# Altium schematic symbol library Panasonic_ERJ_2512.SchLib: 565 symbols (part 10 of 11)
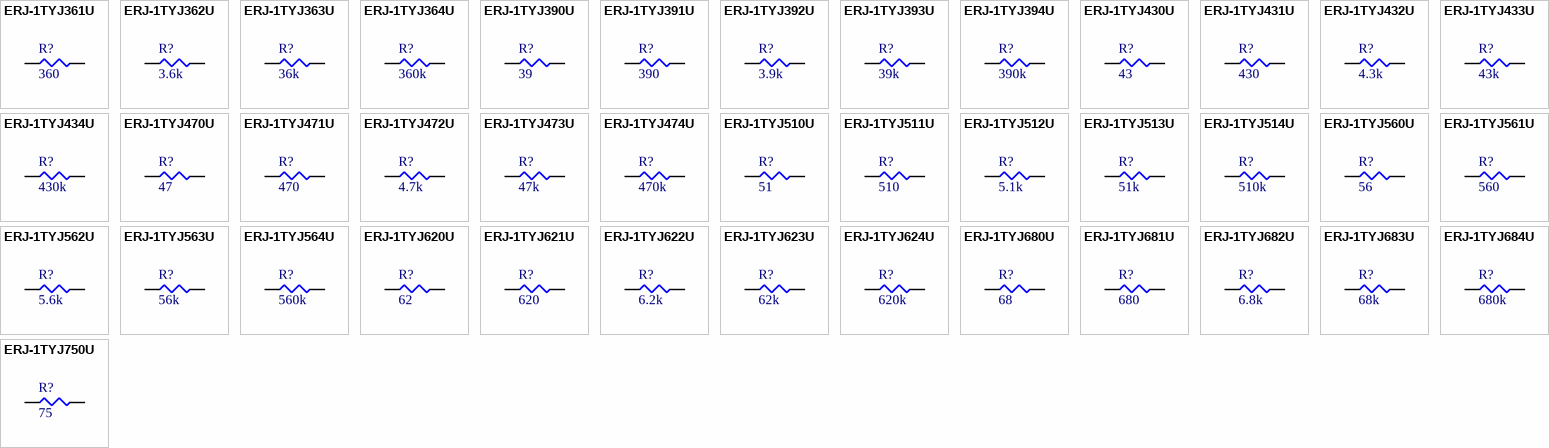
[diagram p23: symbols ERJ-1TYJ361U to ERJ-1TYJ750U]

## ERJ-1TYJ561U
designator R?, comment 560
RES SMD 560 OHM 5% 1W 2512; Part Number: ERJ-1TYJ561U; Manufacturer: Panasonic Electronic Components; Factory Stock: 0; Unit Price (USD): 0.07603; @ qty: 1500; Minimum Quantity: 1; Temperature Coefficient: ±200ppm/°C; Datasheets: //media.digikey.com/pdf/Data%20Sheets/Panasonic%20Resistors%20Thermistors%20PDFs/ERJ-xG,14,12(Z),1T_Rev_Apr_2015.pdf; Image: //media.digikey.com/Renders/Panasonic%20Renders/ERJ-2512%20Pkg.jpg; Digi-Key Part Number: PT560XCT-ND; Quantity Available: 16878; Packaging: Cut Tape (CT); Series: ERJ; Part Status: Active; Value: 560; Tolerance: ±5%; Power (Watts): 1W; Composition: Thick Film; Features: Automotive AEC-Q200; Operating Temperature: -55°C ~ 155°C; Package / Case: 2512 (6432 Metric); Supplier Device Package: 2512; Size / Dimension: 0.252" L x 0.126" W (6.40mm x 3.20mm); Height - Seated (Max): 0.028" (0.70mm); Number of Terminations: 2; Failure Rate: -
footprint SMD-2512-RES
pins: 1, 2

## ERJ-1TYJ562U
designator R?, comment 5.6k
RES SMD 5.6K OHM 5% 1W 2512; Part Number: ERJ-1TYJ562U; Manufacturer: Panasonic Electronic Components; Factory Stock: 0; Unit Price (USD): 0.10102; @ qty: 1500; Minimum Quantity: 1; Temperature Coefficient: ±200ppm/°C; Datasheets: //media.digikey.com/pdf/Data%20Sheets/Panasonic%20Resistors%20Thermistors%20PDFs/ERJ-xG,14,12(Z),1T_Rev_Apr_2015.pdf; Image: //media.digikey.com/Renders/Panasonic%20Renders/ERJ-2512%20Pkg.jpg; Digi-Key Part Number: PT5.6KXCT-ND; Quantity Available: 24278; Packaging: Cut Tape (CT); Series: ERJ; Part Status: Active; Value: 5.6k; Tolerance: ±5%; Power (Watts): 1W; Composition: Thick Film; Features: Automotive AEC-Q200; Operating Temperature: -55°C ~ 155°C; Package / Case: 2512 (6432 Metric); Supplier Device Package: 2512; Size / Dimension: 0.252" L x 0.126" W (6.40mm x 3.20mm); Height - Seated (Max): 0.028" (0.70mm); Number of Terminations: 2; Failure Rate: -
footprint SMD-2512-RES
pins: 1, 2

## ERJ-1TYJ563U
designator R?, comment 56k
RES SMD 56K OHM 5% 1W 2512; Part Number: ERJ-1TYJ563U; Manufacturer: Panasonic Electronic Components; Factory Stock: 0; Unit Price (USD): 0.07603; @ qty: 1500; Minimum Quantity: 1; Temperature Coefficient: ±200ppm/°C; Datasheets: //media.digikey.com/pdf/Data%20Sheets/Panasonic%20Resistors%20Thermistors%20PDFs/ERJ-xG,14,12(Z),1T_Rev_Apr_2015.pdf; Image: //media.digikey.com/Renders/Panasonic%20Renders/ERJ-2512%20Pkg.jpg; Digi-Key Part Number: PT56KXCT-ND; Quantity Available: 4392; Packaging: Cut Tape (CT); Series: ERJ; Part Status: Active; Value: 56k; Tolerance: ±5%; Power (Watts): 1W; Composition: Thick Film; Features: Automotive AEC-Q200; Operating Temperature: -55°C ~ 155°C; Package / Case: 2512 (6432 Metric); Supplier Device Package: 2512; Size / Dimension: 0.252" L x 0.126" W (6.40mm x 3.20mm); Height - Seated (Max): 0.028" (0.70mm); Number of Terminations: 2; Failure Rate: -
footprint SMD-2512-RES
pins: 1, 2

## ERJ-1TYJ564U
designator R?, comment 560k
RES SMD 560K OHM 5% 1W 2512; Part Number: ERJ-1TYJ564U; Manufacturer: Panasonic Electronic Components; Factory Stock: 0; Unit Price (USD): 0.07603; @ qty: 1500; Minimum Quantity: 1; Temperature Coefficient: ±200ppm/°C; Datasheets: //media.digikey.com/pdf/Data%20Sheets/Panasonic%20Resistors%20Thermistors%20PDFs/ERJ-xG,14,12(Z),1T_Rev_Apr_2015.pdf; Image: //media.digikey.com/Renders/Panasonic%20Renders/ERJ-2512%20Pkg.jpg; Digi-Key Part Number: PT560KXCT-ND; Quantity Available: 3495; Packaging: Cut Tape (CT); Series: ERJ; Part Status: Active; Value: 560k; Tolerance: ±5%; Power (Watts): 1W; Composition: Thick Film; Features: Automotive AEC-Q200; Operating Temperature: -55°C ~ 155°C; Package / Case: 2512 (6432 Metric); Supplier Device Package: 2512; Size / Dimension: 0.252" L x 0.126" W (6.40mm x 3.20mm); Height - Seated (Max): 0.028" (0.70mm); Number of Terminations: 2; Failure Rate: -
footprint SMD-2512-RES
pins: 1, 2

## ERJ-1TYJ620U
designator R?, comment 62
RES SMD 62 OHM 5% 1W 2512; Part Number: ERJ-1TYJ620U; Manufacturer: Panasonic Electronic Components; Factory Stock: 0; Unit Price (USD): 0.10102; @ qty: 1500; Minimum Quantity: 1; Temperature Coefficient: ±200ppm/°C; Datasheets: //media.digikey.com/pdf/Data%20Sheets/Panasonic%20Resistors%20Thermistors%20PDFs/ERJ-xG,14,12(Z),1T_Rev_Apr_2015.pdf; Image: //media.digikey.com/Renders/Panasonic%20Renders/ERJ-2512%20Pkg.jpg; Digi-Key Part Number: PT62XCT-ND; Quantity Available: 12503; Packaging: Cut Tape (CT); Series: ERJ; Part Status: Active; Value: 62; Tolerance: ±5%; Power (Watts): 1W; Composition: Thick Film; Features: Automotive AEC-Q200; Operating Temperature: -55°C ~ 155°C; Package / Case: 2512 (6432 Metric); Supplier Device Package: 2512; Size / Dimension: 0.252" L x 0.126" W (6.40mm x 3.20mm); Height - Seated (Max): 0.028" (0.70mm); Number of Terminations: 2; Failure Rate: -
footprint SMD-2512-RES
pins: 1, 2

## ERJ-1TYJ621U
designator R?, comment 620
RES SMD 620 OHM 5% 1W 2512; Part Number: ERJ-1TYJ621U; Manufacturer: Panasonic Electronic Components; Factory Stock: 0; Unit Price (USD): 0.07603; @ qty: 1500; Minimum Quantity: 1; Temperature Coefficient: ±200ppm/°C; Datasheets: //media.digikey.com/pdf/Data%20Sheets/Panasonic%20Resistors%20Thermistors%20PDFs/ERJ-xG,14,12(Z),1T_Rev_Apr_2015.pdf; Image: //media.digikey.com/Renders/Panasonic%20Renders/ERJ-2512%20Pkg.jpg; Digi-Key Part Number: PT620XCT-ND; Quantity Available: 2613; Packaging: Cut Tape (CT); Series: ERJ; Part Status: Active; Value: 620; Tolerance: ±5%; Power (Watts): 1W; Composition: Thick Film; Features: Automotive AEC-Q200; Operating Temperature: -55°C ~ 155°C; Package / Case: 2512 (6432 Metric); Supplier Device Package: 2512; Size / Dimension: 0.252" L x 0.126" W (6.40mm x 3.20mm); Height - Seated (Max): 0.028" (0.70mm); Number of Terminations: 2; Failure Rate: -
footprint SMD-2512-RES
pins: 1, 2

## ERJ-1TYJ622U
designator R?, comment 6.2k
RES SMD 6.2K OHM 5% 1W 2512; Part Number: ERJ-1TYJ622U; Manufacturer: Panasonic Electronic Components; Factory Stock: 0; Unit Price (USD): 0.10102; @ qty: 1500; Minimum Quantity: 1; Temperature Coefficient: ±200ppm/°C; Datasheets: //media.digikey.com/pdf/Data%20Sheets/Panasonic%20Resistors%20Thermistors%20PDFs/ERJ-xG,14,12(Z),1T_Rev_Apr_2015.pdf; Image: //media.digikey.com/Renders/Panasonic%20Renders/ERJ-2512%20Pkg.jpg; Digi-Key Part Number: PT6.2KXCT-ND; Quantity Available: 3339; Packaging: Cut Tape (CT); Series: ERJ; Part Status: Active; Value: 6.2k; Tolerance: ±5%; Power (Watts): 1W; Composition: Thick Film; Features: Automotive AEC-Q200; Operating Temperature: -55°C ~ 155°C; Package / Case: 2512 (6432 Metric); Supplier Device Package: 2512; Size / Dimension: 0.252" L x 0.126" W (6.40mm x 3.20mm); Height - Seated (Max): 0.028" (0.70mm); Number of Terminations: 2; Failure Rate: -
footprint SMD-2512-RES
pins: 1, 2

## ERJ-1TYJ623U
designator R?, comment 62k
RES SMD 62K OHM 5% 1W 2512; Part Number: ERJ-1TYJ623U; Manufacturer: Panasonic Electronic Components; Factory Stock: 0; Unit Price (USD): 0.10102; @ qty: 1500; Minimum Quantity: 1; Temperature Coefficient: ±200ppm/°C; Datasheets: //media.digikey.com/pdf/Data%20Sheets/Panasonic%20Resistors%20Thermistors%20PDFs/ERJ-xG,14,12(Z),1T_Rev_Apr_2015.pdf; Image: //media.digikey.com/Renders/Panasonic%20Renders/ERJ-2512%20Pkg.jpg; Digi-Key Part Number: PT62KXCT-ND; Quantity Available: 9225; Packaging: Cut Tape (CT); Series: ERJ; Part Status: Active; Value: 62k; Tolerance: ±5%; Power (Watts): 1W; Composition: Thick Film; Features: Automotive AEC-Q200; Operating Temperature: -55°C ~ 155°C; Package / Case: 2512 (6432 Metric); Supplier Device Package: 2512; Size / Dimension: 0.252" L x 0.126" W (6.40mm x 3.20mm); Height - Seated (Max): 0.028" (0.70mm); Number of Terminations: 2; Failure Rate: -
footprint SMD-2512-RES
pins: 1, 2

## ERJ-1TYJ624U
designator R?, comment 620k
RES SMD 620K OHM 5% 1W 2512; Part Number: ERJ-1TYJ624U; Manufacturer: Panasonic Electronic Components; Factory Stock: 0; Unit Price (USD): 0.10102; @ qty: 1500; Minimum Quantity: 1; Temperature Coefficient: ±200ppm/°C; Datasheets: //media.digikey.com/pdf/Data%20Sheets/Panasonic%20Resistors%20Thermistors%20PDFs/ERJ-xG,14,12(Z),1T_Rev_Apr_2015.pdf; Image: //media.digikey.com/Renders/Panasonic%20Renders/ERJ-2512%20Pkg.jpg; Digi-Key Part Number: PT620KXCT-ND; Quantity Available: 9294; Packaging: Cut Tape (CT); Series: ERJ; Part Status: Active; Value: 620k; Tolerance: ±5%; Power (Watts): 1W; Composition: Thick Film; Features: Automotive AEC-Q200; Operating Temperature: -55°C ~ 155°C; Package / Case: 2512 (6432 Metric); Supplier Device Package: 2512; Size / Dimension: 0.252" L x 0.126" W (6.40mm x 3.20mm); Height - Seated (Max): 0.028" (0.70mm); Number of Terminations: 2; Failure Rate: -
footprint SMD-2512-RES
pins: 1, 2

## ERJ-1TYJ680U
designator R?, comment 68
RES SMD 68 OHM 5% 1W 2512; Part Number: ERJ-1TYJ680U; Manufacturer: Panasonic Electronic Components; Factory Stock: 0; Unit Price (USD): 0.10102; @ qty: 1500; Minimum Quantity: 1; Temperature Coefficient: ±200ppm/°C; Datasheets: //media.digikey.com/pdf/Data%20Sheets/Panasonic%20Resistors%20Thermistors%20PDFs/ERJ-xG,14,12(Z),1T_Rev_Apr_2015.pdf; Image: //media.digikey.com/Renders/Panasonic%20Renders/ERJ-2512%20Pkg.jpg; Digi-Key Part Number: PT68XCT-ND; Quantity Available: 16899; Packaging: Cut Tape (CT); Series: ERJ; Part Status: Active; Value: 68; Tolerance: ±5%; Power (Watts): 1W; Composition: Thick Film; Features: Automotive AEC-Q200; Operating Temperature: -55°C ~ 155°C; Package / Case: 2512 (6432 Metric); Supplier Device Package: 2512; Size / Dimension: 0.252" L x 0.126" W (6.40mm x 3.20mm); Height - Seated (Max): 0.028" (0.70mm); Number of Terminations: 2; Failure Rate: -
footprint SMD-2512-RES
pins: 1, 2

## ERJ-1TYJ681U
designator R?, comment 680
RES SMD 680 OHM 5% 1W 2512; Part Number: ERJ-1TYJ681U; Manufacturer: Panasonic Electronic Components; Factory Stock: 0; Unit Price (USD): 0.07603; @ qty: 1500; Minimum Quantity: 1; Temperature Coefficient: ±200ppm/°C; Datasheets: //media.digikey.com/pdf/Data%20Sheets/Panasonic%20Resistors%20Thermistors%20PDFs/ERJ-xG,14,12(Z),1T_Rev_Apr_2015.pdf; Image: //media.digikey.com/Renders/Panasonic%20Renders/ERJ-2512%20Pkg.jpg; Digi-Key Part Number: PT680XCT-ND; Quantity Available: 6193; Packaging: Cut Tape (CT); Series: ERJ; Part Status: Active; Value: 680; Tolerance: ±5%; Power (Watts): 1W; Composition: Thick Film; Features: Automotive AEC-Q200; Operating Temperature: -55°C ~ 155°C; Package / Case: 2512 (6432 Metric); Supplier Device Package: 2512; Size / Dimension: 0.252" L x 0.126" W (6.40mm x 3.20mm); Height - Seated (Max): 0.028" (0.70mm); Number of Terminations: 2; Failure Rate: -
footprint SMD-2512-RES
pins: 1, 2

## ERJ-1TYJ682U
designator R?, comment 6.8k
RES SMD 6.8K OHM 5% 1W 2512; Part Number: ERJ-1TYJ682U; Manufacturer: Panasonic Electronic Components; Factory Stock: 0; Unit Price (USD): 0.07603; @ qty: 1500; Minimum Quantity: 1; Temperature Coefficient: ±200ppm/°C; Datasheets: //media.digikey.com/pdf/Data%20Sheets/Panasonic%20Resistors%20Thermistors%20PDFs/ERJ-xG,14,12(Z),1T_Rev_Apr_2015.pdf; Image: //media.digikey.com/Renders/Panasonic%20Renders/ERJ-2512%20Pkg.jpg; Digi-Key Part Number: PT6.8KXCT-ND; Quantity Available: 576; Packaging: Cut Tape (CT); Series: ERJ; Part Status: Active; Value: 6.8k; Tolerance: ±5%; Power (Watts): 1W; Composition: Thick Film; Features: Automotive AEC-Q200; Operating Temperature: -55°C ~ 155°C; Package / Case: 2512 (6432 Metric); Supplier Device Package: 2512; Size / Dimension: 0.252" L x 0.126" W (6.40mm x 3.20mm); Height - Seated (Max): 0.028" (0.70mm); Number of Terminations: 2; Failure Rate: -
footprint SMD-2512-RES
pins: 1, 2

## ERJ-1TYJ683U
designator R?, comment 68k
RES SMD 68K OHM 5% 1W 2512; Part Number: ERJ-1TYJ683U; Manufacturer: Panasonic Electronic Components; Factory Stock: 0; Unit Price (USD): 0.07603; @ qty: 1500; Minimum Quantity: 1; Temperature Coefficient: ±200ppm/°C; Datasheets: //media.digikey.com/pdf/Data%20Sheets/Panasonic%20Resistors%20Thermistors%20PDFs/ERJ-xG,14,12(Z),1T_Rev_Apr_2015.pdf; Image: //media.digikey.com/Renders/Panasonic%20Renders/ERJ-2512%20Pkg.jpg; Digi-Key Part Number: PT68KXCT-ND; Quantity Available: 10840; Packaging: Cut Tape (CT); Series: ERJ; Part Status: Active; Value: 68k; Tolerance: ±5%; Power (Watts): 1W; Composition: Thick Film; Features: Automotive AEC-Q200; Operating Temperature: -55°C ~ 155°C; Package / Case: 2512 (6432 Metric); Supplier Device Package: 2512; Size / Dimension: 0.252" L x 0.126" W (6.40mm x 3.20mm); Height - Seated (Max): 0.028" (0.70mm); Number of Terminations: 2; Failure Rate: -
footprint SMD-2512-RES
pins: 1, 2

## ERJ-1TYJ684U
designator R?, comment 680k
RES SMD 680K OHM 5% 1W 2512; Part Number: ERJ-1TYJ684U; Manufacturer: Panasonic Electronic Components; Factory Stock: 0; Unit Price (USD): 0.10102; @ qty: 1500; Minimum Quantity: 1; Temperature Coefficient: ±200ppm/°C; Datasheets: //media.digikey.com/pdf/Data%20Sheets/Panasonic%20Resistors%20Thermistors%20PDFs/ERJ-xG,14,12(Z),1T_Rev_Apr_2015.pdf; Image: //media.digikey.com/Renders/Panasonic%20Renders/ERJ-2512%20Pkg.jpg; Digi-Key Part Number: PT680KXCT-ND; Quantity Available: 15206; Packaging: Cut Tape (CT); Series: ERJ; Part Status: Active; Value: 680k; Tolerance: ±5%; Power (Watts): 1W; Composition: Thick Film; Features: Automotive AEC-Q200; Operating Temperature: -55°C ~ 155°C; Package / Case: 2512 (6432 Metric); Supplier Device Package: 2512; Size / Dimension: 0.252" L x 0.126" W (6.40mm x 3.20mm); Height - Seated (Max): 0.028" (0.70mm); Number of Terminations: 2; Failure Rate: -
footprint SMD-2512-RES
pins: 1, 2

## ERJ-1TYJ750U
designator R?, comment 75
RES SMD 75 OHM 5% 1W 2512; Part Number: ERJ-1TYJ750U; Manufacturer: Panasonic Electronic Components; Factory Stock: 0; Unit Price (USD): 0.10102; @ qty: 1500; Minimum Quantity: 1; Temperature Coefficient: ±200ppm/°C; Datasheets: //media.digikey.com/pdf/Data%20Sheets/Panasonic%20Resistors%20Thermistors%20PDFs/ERJ-xG,14,12(Z),1T_Rev_Apr_2015.pdf; Image: //media.digikey.com/Renders/Panasonic%20Renders/ERJ-2512%20Pkg.jpg; Digi-Key Part Number: PT75XCT-ND; Quantity Available: 70339; Packaging: Cut Tape (CT); Series: ERJ; Part Status: Active; Value: 75; Tolerance: ±5%; Power (Watts): 1W; Composition: Thick Film; Features: Automotive AEC-Q200; Operating Temperature: -55°C ~ 155°C; Package / Case: 2512 (6432 Metric); Supplier Device Package: 2512; Size / Dimension: 0.252" L x 0.126" W (6.40mm x 3.20mm); Height - Seated (Max): 0.028" (0.70mm); Number of Terminations: 2; Failure Rate: -
footprint SMD-2512-RES
pins: 1, 2

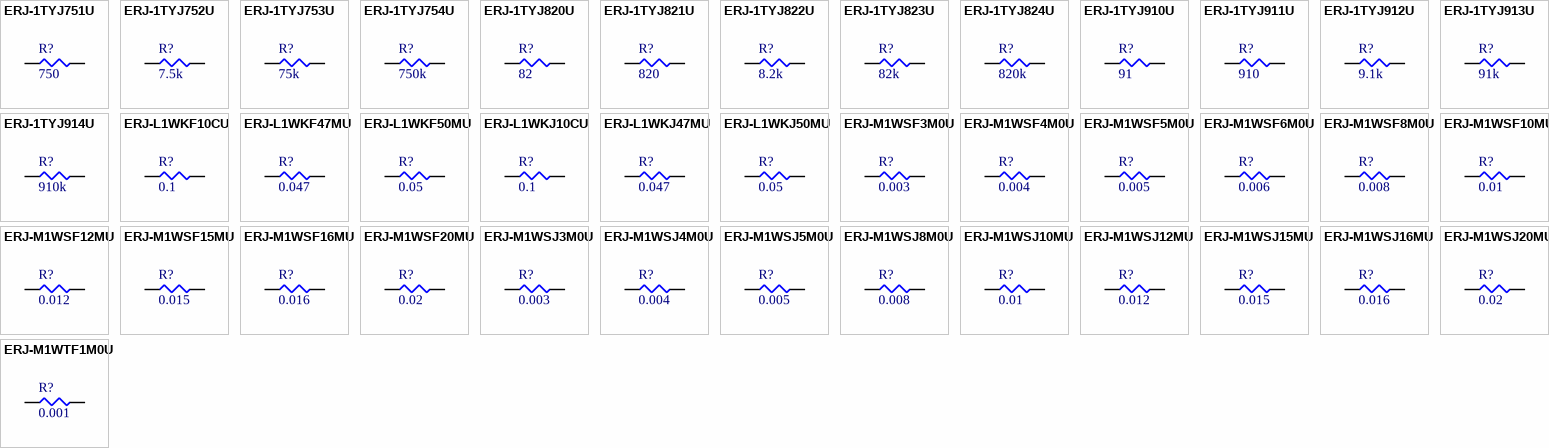
[diagram p12: symbols ERJ-1TYJ751U to ERJ-M1WTF1M0U]

## ERJ-1TYJ751U
designator R?, comment 750
RES SMD 750 OHM 5% 1W 2512; Part Number: ERJ-1TYJ751U; Manufacturer: Panasonic Electronic Components; Factory Stock: 0; Unit Price (USD): 0.10102; @ qty: 1500; Minimum Quantity: 1; Temperature Coefficient: ±200ppm/°C; Datasheets: //media.digikey.com/pdf/Data%20Sheets/Panasonic%20Resistors%20Thermistors%20PDFs/ERJ-xG,14,12(Z),1T_Rev_Apr_2015.pdf; Image: //media.digikey.com/Renders/Panasonic%20Renders/ERJ-2512%20Pkg.jpg; Digi-Key Part Number: PT750XCT-ND; Quantity Available: 16929; Packaging: Cut Tape (CT); Series: ERJ; Part Status: Active; Value: 750; Tolerance: ±5%; Power (Watts): 1W; Composition: Thick Film; Features: Automotive AEC-Q200; Operating Temperature: -55°C ~ 155°C; Package / Case: 2512 (6432 Metric); Supplier Device Package: 2512; Size / Dimension: 0.252" L x 0.126" W (6.40mm x 3.20mm); Height - Seated (Max): 0.028" (0.70mm); Number of Terminations: 2; Failure Rate: -
footprint SMD-2512-RES
pins: 1, 2

## ERJ-1TYJ752U
designator R?, comment 7.5k
RES SMD 7.5K OHM 5% 1W 2512; Part Number: ERJ-1TYJ752U; Manufacturer: Panasonic Electronic Components; Factory Stock: 0; Unit Price (USD): 0.10102; @ qty: 1500; Minimum Quantity: 1; Temperature Coefficient: ±200ppm/°C; Datasheets: //media.digikey.com/pdf/Data%20Sheets/Panasonic%20Resistors%20Thermistors%20PDFs/ERJ-xG,14,12(Z),1T_Rev_Apr_2015.pdf; Image: //media.digikey.com/Renders/Panasonic%20Renders/ERJ-2512%20Pkg.jpg; Digi-Key Part Number: PT7.5KXCT-ND; Quantity Available: 12761; Packaging: Cut Tape (CT); Series: ERJ; Part Status: Active; Value: 7.5k; Tolerance: ±5%; Power (Watts): 1W; Composition: Thick Film; Features: Automotive AEC-Q200; Operating Temperature: -55°C ~ 155°C; Package / Case: 2512 (6432 Metric); Supplier Device Package: 2512; Size / Dimension: 0.252" L x 0.126" W (6.40mm x 3.20mm); Height - Seated (Max): 0.028" (0.70mm); Number of Terminations: 2; Failure Rate: -
footprint SMD-2512-RES
pins: 1, 2

## ERJ-1TYJ753U
designator R?, comment 75k
RES SMD 75K OHM 5% 1W 2512; Part Number: ERJ-1TYJ753U; Manufacturer: Panasonic Electronic Components; Factory Stock: 0; Unit Price (USD): 0.07603; @ qty: 1500; Minimum Quantity: 1; Temperature Coefficient: ±200ppm/°C; Datasheets: //media.digikey.com/pdf/Data%20Sheets/Panasonic%20Resistors%20Thermistors%20PDFs/ERJ-xG,14,12(Z),1T_Rev_Apr_2015.pdf; Image: //media.digikey.com/Renders/Panasonic%20Renders/ERJ-2512%20Pkg.jpg; Digi-Key Part Number: PT75KXCT-ND; Quantity Available: 15526; Packaging: Cut Tape (CT); Series: ERJ; Part Status: Active; Value: 75k; Tolerance: ±5%; Power (Watts): 1W; Composition: Thick Film; Features: Automotive AEC-Q200; Operating Temperature: -55°C ~ 155°C; Package / Case: 2512 (6432 Metric); Supplier Device Package: 2512; Size / Dimension: 0.252" L x 0.126" W (6.40mm x 3.20mm); Height - Seated (Max): 0.028" (0.70mm); Number of Terminations: 2; Failure Rate: -
footprint SMD-2512-RES
pins: 1, 2

## ERJ-1TYJ754U
designator R?, comment 750k
RES SMD 750K OHM 5% 1W 2512; Part Number: ERJ-1TYJ754U; Manufacturer: Panasonic Electronic Components; Factory Stock: 0; Unit Price (USD): 0.10102; @ qty: 1500; Minimum Quantity: 1; Temperature Coefficient: ±200ppm/°C; Datasheets: //media.digikey.com/pdf/Data%20Sheets/Panasonic%20Resistors%20Thermistors%20PDFs/ERJ-xG,14,12(Z),1T_Rev_Apr_2015.pdf; Image: //media.digikey.com/Renders/Panasonic%20Renders/ERJ-2512%20Pkg.jpg; Digi-Key Part Number: PT750KXCT-ND; Quantity Available: 10447; Packaging: Cut Tape (CT); Series: ERJ; Part Status: Active; Value: 750k; Tolerance: ±5%; Power (Watts): 1W; Composition: Thick Film; Features: Automotive AEC-Q200; Operating Temperature: -55°C ~ 155°C; Package / Case: 2512 (6432 Metric); Supplier Device Package: 2512; Size / Dimension: 0.252" L x 0.126" W (6.40mm x 3.20mm); Height - Seated (Max): 0.028" (0.70mm); Number of Terminations: 2; Failure Rate: -
footprint SMD-2512-RES
pins: 1, 2

## ERJ-1TYJ820U
designator R?, comment 82
RES SMD 82 OHM 5% 1W 2512; Part Number: ERJ-1TYJ820U; Manufacturer: Panasonic Electronic Components; Factory Stock: 0; Unit Price (USD): 0.07603; @ qty: 1500; Minimum Quantity: 1; Temperature Coefficient: ±200ppm/°C; Datasheets: //media.digikey.com/pdf/Data%20Sheets/Panasonic%20Resistors%20Thermistors%20PDFs/ERJ-xG,14,12(Z),1T_Rev_Apr_2015.pdf; Image: //media.digikey.com/Renders/Panasonic%20Renders/ERJ-2512%20Pkg.jpg; Digi-Key Part Number: PT82XCT-ND; Quantity Available: 13855; Packaging: Cut Tape (CT); Series: ERJ; Part Status: Active; Value: 82; Tolerance: ±5%; Power (Watts): 1W; Composition: Thick Film; Features: Automotive AEC-Q200; Operating Temperature: -55°C ~ 155°C; Package / Case: 2512 (6432 Metric); Supplier Device Package: 2512; Size / Dimension: 0.252" L x 0.126" W (6.40mm x 3.20mm); Height - Seated (Max): 0.028" (0.70mm); Number of Terminations: 2; Failure Rate: -
footprint SMD-2512-RES
pins: 1, 2

## ERJ-1TYJ821U
designator R?, comment 820
RES SMD 820 OHM 5% 1W 2512; Part Number: ERJ-1TYJ821U; Manufacturer: Panasonic Electronic Components; Factory Stock: 0; Unit Price (USD): 0.07603; @ qty: 1500; Minimum Quantity: 1; Temperature Coefficient: ±200ppm/°C; Datasheets: //media.digikey.com/pdf/Data%20Sheets/Panasonic%20Resistors%20Thermistors%20PDFs/ERJ-xG,14,12(Z),1T_Rev_Apr_2015.pdf; Image: //media.digikey.com/Renders/Panasonic%20Renders/ERJ-2512%20Pkg.jpg; Digi-Key Part Number: PT820XCT-ND; Quantity Available: 18417; Packaging: Cut Tape (CT); Series: ERJ; Part Status: Active; Value: 820; Tolerance: ±5%; Power (Watts): 1W; Composition: Thick Film; Features: Automotive AEC-Q200; Operating Temperature: -55°C ~ 155°C; Package / Case: 2512 (6432 Metric); Supplier Device Package: 2512; Size / Dimension: 0.252" L x 0.126" W (6.40mm x 3.20mm); Height - Seated (Max): 0.028" (0.70mm); Number of Terminations: 2; Failure Rate: -
footprint SMD-2512-RES
pins: 1, 2

## ERJ-1TYJ822U
designator R?, comment 8.2k
RES SMD 8.2K OHM 5% 1W 2512; Part Number: ERJ-1TYJ822U; Manufacturer: Panasonic Electronic Components; Factory Stock: 0; Unit Price (USD): 0.07603; @ qty: 1500; Minimum Quantity: 1; Temperature Coefficient: ±200ppm/°C; Datasheets: //media.digikey.com/pdf/Data%20Sheets/Panasonic%20Resistors%20Thermistors%20PDFs/ERJ-xG,14,12(Z),1T_Rev_Apr_2015.pdf; Image: //media.digikey.com/Renders/Panasonic%20Renders/ERJ-2512%20Pkg.jpg; Digi-Key Part Number: PT8.2KXCT-ND; Quantity Available: 6535; Packaging: Cut Tape (CT); Series: ERJ; Part Status: Active; Value: 8.2k; Tolerance: ±5%; Power (Watts): 1W; Composition: Thick Film; Features: Automotive AEC-Q200; Operating Temperature: -55°C ~ 155°C; Package / Case: 2512 (6432 Metric); Supplier Device Package: 2512; Size / Dimension: 0.252" L x 0.126" W (6.40mm x 3.20mm); Height - Seated (Max): 0.028" (0.70mm); Number of Terminations: 2; Failure Rate: -
footprint SMD-2512-RES
pins: 1, 2

## ERJ-1TYJ823U
designator R?, comment 82k
RES SMD 82K OHM 5% 1W 2512; Part Number: ERJ-1TYJ823U; Manufacturer: Panasonic Electronic Components; Factory Stock: 0; Unit Price (USD): 0.10102; @ qty: 1500; Minimum Quantity: 1; Temperature Coefficient: ±200ppm/°C; Datasheets: //media.digikey.com/pdf/Data%20Sheets/Panasonic%20Resistors%20Thermistors%20PDFs/ERJ-xG,14,12(Z),1T_Rev_Apr_2015.pdf; Image: //media.digikey.com/Renders/Panasonic%20Renders/ERJ-2512%20Pkg.jpg; Digi-Key Part Number: PT82KXCT-ND; Quantity Available: 6553; Packaging: Cut Tape (CT); Series: ERJ; Part Status: Active; Value: 82k; Tolerance: ±5%; Power (Watts): 1W; Composition: Thick Film; Features: Automotive AEC-Q200; Operating Temperature: -55°C ~ 155°C; Package / Case: 2512 (6432 Metric); Supplier Device Package: 2512; Size / Dimension: 0.252" L x 0.126" W (6.40mm x 3.20mm); Height - Seated (Max): 0.028" (0.70mm); Number of Terminations: 2; Failure Rate: -
footprint SMD-2512-RES
pins: 1, 2

## ERJ-1TYJ824U
designator R?, comment 820k
RES SMD 820K OHM 5% 1W 2512; Part Number: ERJ-1TYJ824U; Manufacturer: Panasonic Electronic Components; Factory Stock: 0; Unit Price (USD): 0.10102; @ qty: 1500; Minimum Quantity: 1; Temperature Coefficient: ±200ppm/°C; Datasheets: //media.digikey.com/pdf/Data%20Sheets/Panasonic%20Resistors%20Thermistors%20PDFs/ERJ-xG,14,12(Z),1T_Rev_Apr_2015.pdf; Image: //media.digikey.com/Renders/Panasonic%20Renders/ERJ-2512%20Pkg.jpg; Digi-Key Part Number: PT820KXCT-ND; Quantity Available: 5277; Packaging: Cut Tape (CT); Series: ERJ; Part Status: Active; Value: 820k; Tolerance: ±5%; Power (Watts): 1W; Composition: Thick Film; Features: Automotive AEC-Q200; Operating Temperature: -55°C ~ 155°C; Package / Case: 2512 (6432 Metric); Supplier Device Package: 2512; Size / Dimension: 0.252" L x 0.126" W (6.40mm x 3.20mm); Height - Seated (Max): 0.028" (0.70mm); Number of Terminations: 2; Failure Rate: -
footprint SMD-2512-RES
pins: 1, 2

## ERJ-1TYJ910U
designator R?, comment 91
RES SMD 91 OHM 5% 1W 2512; Part Number: ERJ-1TYJ910U; Manufacturer: Panasonic Electronic Components; Factory Stock: 0; Unit Price (USD): 0.10102; @ qty: 1500; Minimum Quantity: 1; Temperature Coefficient: ±200ppm/°C; Datasheets: //media.digikey.com/pdf/Data%20Sheets/Panasonic%20Resistors%20Thermistors%20PDFs/ERJ-xG,14,12(Z),1T_Rev_Apr_2015.pdf; Image: //media.digikey.com/Renders/Panasonic%20Renders/ERJ-2512%20Pkg.jpg; Digi-Key Part Number: PT91XCT-ND; Quantity Available: 16612; Packaging: Cut Tape (CT); Series: ERJ; Part Status: Active; Value: 91; Tolerance: ±5%; Power (Watts): 1W; Composition: Thick Film; Features: Automotive AEC-Q200; Operating Temperature: -55°C ~ 155°C; Package / Case: 2512 (6432 Metric); Supplier Device Package: 2512; Size / Dimension: 0.252" L x 0.126" W (6.40mm x 3.20mm); Height - Seated (Max): 0.028" (0.70mm); Number of Terminations: 2; Failure Rate: -
footprint SMD-2512-RES
pins: 1, 2

## ERJ-1TYJ911U
designator R?, comment 910
RES SMD 910 OHM 5% 1W 2512; Part Number: ERJ-1TYJ911U; Manufacturer: Panasonic Electronic Components; Factory Stock: 0; Unit Price (USD): 0.10102; @ qty: 1500; Minimum Quantity: 1; Temperature Coefficient: ±200ppm/°C; Datasheets: //media.digikey.com/pdf/Data%20Sheets/Panasonic%20Resistors%20Thermistors%20PDFs/ERJ-xG,14,12(Z),1T_Rev_Apr_2015.pdf; Image: //media.digikey.com/Renders/Panasonic%20Renders/ERJ-2512%20Pkg.jpg; Digi-Key Part Number: PT910XCT-ND; Quantity Available: 16815; Packaging: Cut Tape (CT); Series: ERJ; Part Status: Active; Value: 910; Tolerance: ±5%; Power (Watts): 1W; Composition: Thick Film; Features: Automotive AEC-Q200; Operating Temperature: -55°C ~ 155°C; Package / Case: 2512 (6432 Metric); Supplier Device Package: 2512; Size / Dimension: 0.252" L x 0.126" W (6.40mm x 3.20mm); Height - Seated (Max): 0.028" (0.70mm); Number of Terminations: 2; Failure Rate: -
footprint SMD-2512-RES
pins: 1, 2

## ERJ-1TYJ912U
designator R?, comment 9.1k
RES SMD 9.1K OHM 5% 1W 2512; Part Number: ERJ-1TYJ912U; Manufacturer: Panasonic Electronic Components; Factory Stock: 0; Unit Price (USD): 0.10102; @ qty: 1500; Minimum Quantity: 1; Temperature Coefficient: ±200ppm/°C; Datasheets: //media.digikey.com/pdf/Data%20Sheets/Panasonic%20Resistors%20Thermistors%20PDFs/ERJ-xG,14,12(Z),1T_Rev_Apr_2015.pdf; Image: //media.digikey.com/Renders/Panasonic%20Renders/ERJ-2512%20Pkg.jpg; Digi-Key Part Number: PT9.1KXCT-ND; Quantity Available: 7518; Packaging: Cut Tape (CT); Series: ERJ; Part Status: Active; Value: 9.1k; Tolerance: ±5%; Power (Watts): 1W; Composition: Thick Film; Features: Automotive AEC-Q200; Operating Temperature: -55°C ~ 155°C; Package / Case: 2512 (6432 Metric); Supplier Device Package: 2512; Size / Dimension: 0.252" L x 0.126" W (6.40mm x 3.20mm); Height - Seated (Max): 0.028" (0.70mm); Number of Terminations: 2; Failure Rate: -
footprint SMD-2512-RES
pins: 1, 2

## ERJ-1TYJ913U
designator R?, comment 91k
RES SMD 91K OHM 5% 1W 2512; Part Number: ERJ-1TYJ913U; Manufacturer: Panasonic Electronic Components; Factory Stock: 0; Unit Price (USD): 0.10102; @ qty: 1500; Minimum Quantity: 1; Temperature Coefficient: ±200ppm/°C; Datasheets: //media.digikey.com/pdf/Data%20Sheets/Panasonic%20Resistors%20Thermistors%20PDFs/ERJ-xG,14,12(Z),1T_Rev_Apr_2015.pdf; Image: //media.digikey.com/Renders/Panasonic%20Renders/ERJ-2512%20Pkg.jpg; Digi-Key Part Number: PT91KXCT-ND; Quantity Available: 7563; Packaging: Cut Tape (CT); Series: ERJ; Part Status: Active; Value: 91k; Tolerance: ±5%; Power (Watts): 1W; Composition: Thick Film; Features: Automotive AEC-Q200; Operating Temperature: -55°C ~ 155°C; Package / Case: 2512 (6432 Metric); Supplier Device Package: 2512; Size / Dimension: 0.252" L x 0.126" W (6.40mm x 3.20mm); Height - Seated (Max): 0.028" (0.70mm); Number of Terminations: 2; Failure Rate: -
footprint SMD-2512-RES
pins: 1, 2

## ERJ-1TYJ914U
designator R?, comment 910k
RES SMD 910K OHM 5% 1W 2512; Part Number: ERJ-1TYJ914U; Manufacturer: Panasonic Electronic Components; Factory Stock: 0; Unit Price (USD): 0.10102; @ qty: 1500; Minimum Quantity: 1; Temperature Coefficient: ±200ppm/°C; Datasheets: //media.digikey.com/pdf/Data%20Sheets/Panasonic%20Resistors%20Thermistors%20PDFs/ERJ-xG,14,12(Z),1T_Rev_Apr_2015.pdf; Image: //media.digikey.com/Renders/Panasonic%20Renders/ERJ-2512%20Pkg.jpg; Digi-Key Part Number: PT910KXCT-ND; Quantity Available: 11009; Packaging: Cut Tape (CT); Series: ERJ; Part Status: Active; Value: 910k; Tolerance: ±5%; Power (Watts): 1W; Composition: Thick Film; Features: Automotive AEC-Q200; Operating Temperature: -55°C ~ 155°C; Package / Case: 2512 (6432 Metric); Supplier Device Package: 2512; Size / Dimension: 0.252" L x 0.126" W (6.40mm x 3.20mm); Height - Seated (Max): 0.028" (0.70mm); Number of Terminations: 2; Failure Rate: -
footprint SMD-2512-RES
pins: 1, 2

## ERJ-L1WKF10CU
designator R?, comment 0.1
RES SMD 0.1 OHM 1% 1W 2512; Part Number: ERJ-L1WKF10CU; Manufacturer: Panasonic Electronic Components; Factory Stock: 0; Unit Price (USD): 0.44558; @ qty: 1500; Minimum Quantity: 1; Temperature Coefficient: ±100ppm/°C; Datasheets: https://industrial.panasonic.com/cdbs/www-data/pdf/RDA0000/AOA0000C239.pdf; Image: //media.digikey.com/Renders/Panasonic%20Renders/ERJ-2512%20Pkg.jpg; Digi-Key Part Number: P100MCT-ND; Quantity Available: 31278; Packaging: Cut Tape (CT); Series: ERJ; Part Status: Active; Value: 0.1; Tolerance: ±1%; Power (Watts): 1W; Composition: Thick Film; Features: Automotive AEC-Q200, Current Sense; Operating Temperature: -55°C ~ 125°C; Package / Case: 2512 (6432 Metric); Supplier Device Package: 2512; Size / Dimension: 0.252" L x 0.126" W (6.40mm x 3.20mm); Height - Seated (Max): 0.047" (1.20mm); Number of Terminations: 2; Failure Rate: -
footprint SMD-2512-RES
pins: 1, 2

## ERJ-L1WKF47MU
designator R?, comment 0.047
RES SMD 0.047 OHM 1% 1W 2512; Part Number: ERJ-L1WKF47MU; Manufacturer: Panasonic Electronic Components; Factory Stock: 0; Unit Price (USD): 0.44558; @ qty: 1500; Minimum Quantity: 1; Temperature Coefficient: ±100ppm/°C; Datasheets: https://industrial.panasonic.com/cdbs/www-data/pdf/RDA0000/AOA0000C239.pdf; Image: //media.digikey.com/Renders/Panasonic%20Renders/ERJ-2512%20Pkg.jpg; Digi-Key Part Number: P47MCT-ND; Quantity Available: 2028; Packaging: Cut Tape (CT); Series: ERJ; Part Status: Active; Value: 0.047; Tolerance: ±1%; Power (Watts): 1W; Composition: Thick Film; Features: Automotive AEC-Q200, Current Sense; Operating Temperature: -55°C ~ 125°C; Package / Case: 2512 (6432 Metric); Supplier Device Package: 2512; Size / Dimension: 0.252" L x 0.126" W (6.40mm x 3.20mm); Height - Seated (Max): 0.047" (1.20mm); Number of Terminations: 2; Failure Rate: -
footprint SMD-2512-RES
pins: 1, 2

## ERJ-L1WKF50MU
designator R?, comment 0.05
RES SMD 0.05 OHM 1% 1W 2512; Part Number: ERJ-L1WKF50MU; Manufacturer: Panasonic Electronic Components; Factory Stock: 0; Unit Price (USD): 0.44460; @ qty: 1500; Minimum Quantity: 1; Temperature Coefficient: ±100ppm/°C; Datasheets: https://industrial.panasonic.com/cdbs/www-data/pdf/RDA0000/AOA0000C239.pdf; Image: //media.digikey.com/Renders/Panasonic%20Renders/ERJ-2512%20Pkg.jpg; Digi-Key Part Number: P50MCT-ND; Quantity Available: 23045; Packaging: Cut Tape (CT); Series: ERJ; Part Status: Active; Value: 0.05; Tolerance: ±1%; Power (Watts): 1W; Composition: Thick Film; Features: Automotive AEC-Q200, Current Sense; Operating Temperature: -55°C ~ 125°C; Package / Case: 2512 (6432 Metric); Supplier Device Package: 2512; Size / Dimension: 0.252" L x 0.126" W (6.40mm x 3.20mm); Height - Seated (Max): 0.047" (1.20mm); Number of Terminations: 2; Failure Rate: -
footprint SMD-2512-RES
pins: 1, 2

## ERJ-L1WKJ10CU
designator R?, comment 0.1
RES SMD 0.1 OHM 5% 1W 2512; Part Number: ERJ-L1WKJ10CU; Manufacturer: Panasonic Electronic Components; Factory Stock: 0; Unit Price (USD): 0.37635; @ qty: 1500; Minimum Quantity: 1; Temperature Coefficient: ±100ppm/°C; Datasheets: https://industrial.panasonic.com/cdbs/www-data/pdf/RDA0000/AOA0000C239.pdf; Image: //media.digikey.com/Renders/Panasonic%20Renders/ERJ-2512%20Pkg.jpg; Digi-Key Part Number: P100TCT-ND; Quantity Available: 20661; Packaging: Cut Tape (CT); Series: ERJ; Part Status: Active; Value: 0.1; Tolerance: ±5%; Power (Watts): 1W; Composition: Thick Film; Features: Automotive AEC-Q200, Current Sense; Operating Temperature: -55°C ~ 125°C; Package / Case: 2512 (6432 Metric); Supplier Device Package: 2512; Size / Dimension: 0.252" L x 0.126" W (6.40mm x 3.20mm); Height - Seated (Max): 0.047" (1.20mm); Number of Terminations: 2; Failure Rate: -
footprint SMD-2512-RES
pins: 1, 2

## ERJ-L1WKJ47MU
designator R?, comment 0.047
RES SMD 0.047 OHM 5% 1W 2512; Part Number: ERJ-L1WKJ47MU; Manufacturer: Panasonic Electronic Components; Factory Stock: 0; Unit Price (USD): 0.37635; @ qty: 1500; Minimum Quantity: 1; Temperature Coefficient: ±100ppm/°C; Datasheets: https://industrial.panasonic.com/cdbs/www-data/pdf/RDA0000/AOA0000C239.pdf; Image: //media.digikey.com/Renders/Panasonic%20Renders/ERJ-2512%20Pkg.jpg; Digi-Key Part Number: P47TCT-ND; Quantity Available: 2830; Packaging: Cut Tape (CT); Series: ERJ; Part Status: Active; Value: 0.047; Tolerance: ±5%; Power (Watts): 1W; Composition: Thick Film; Features: Automotive AEC-Q200, Current Sense; Operating Temperature: -55°C ~ 125°C; Package / Case: 2512 (6432 Metric); Supplier Device Package: 2512; Size / Dimension: 0.252" L x 0.126" W (6.40mm x 3.20mm); Height - Seated (Max): 0.047" (1.20mm); Number of Terminations: 2; Failure Rate: -
footprint SMD-2512-RES
pins: 1, 2

## ERJ-L1WKJ50MU
designator R?, comment 0.05
RES SMD 0.05 OHM 5% 1W 2512; Part Number: ERJ-L1WKJ50MU; Manufacturer: Panasonic Electronic Components; Factory Stock: 0; Unit Price (USD): 0.37635; @ qty: 1500; Minimum Quantity: 1; Temperature Coefficient: ±100ppm/°C; Datasheets: https://industrial.panasonic.com/cdbs/www-data/pdf/RDA0000/AOA0000C239.pdf; Image: //media.digikey.com/Renders/Panasonic%20Renders/ERJ-2512%20Pkg.jpg; Digi-Key Part Number: P50TCT-ND; Quantity Available: 2472; Packaging: Cut Tape (CT); Series: ERJ; Part Status: Active; Value: 0.05; Tolerance: ±5%; Power (Watts): 1W; Composition: Thick Film; Features: Automotive AEC-Q200, Current Sense; Operating Temperature: -55°C ~ 125°C; Package / Case: 2512 (6432 Metric); Supplier Device Package: 2512; Size / Dimension: 0.252" L x 0.126" W (6.40mm x 3.20mm); Height - Seated (Max): 0.047" (1.20mm); Number of Terminations: 2; Failure Rate: -
footprint SMD-2512-RES
pins: 1, 2

## ERJ-M1WSF3M0U
designator R?, comment 0.003
RES SMD 0.003 OHM 1% 1W 2512; Part Number: ERJ-M1WSF3M0U; Manufacturer: Panasonic Electronic Components; Factory Stock: 0; Unit Price (USD): 0.22960; @ qty: 1500; Minimum Quantity: 1; Temperature Coefficient: ±350ppm/°C; Datasheets: http://industrial.panasonic.com/www-cgi/jvcr13pz.cgi?E+PZ+3+AOA0007+ERJM1WSF3M0U+7+WW; Image: //media.digikey.com/Renders/Panasonic%20Renders/ERJ-2512%20Pkg.jpg; Digi-Key Part Number: P3.0MCT-ND; Quantity Available: 5685; Packaging: Cut Tape (CT); Series: ERJ; Part Status: Active; Value: 0.003; Tolerance: ±1%; Power (Watts): 1W; Composition: Metal Element; Features: Current Sense; Operating Temperature: -55°C ~ 170°C; Package / Case: 2512 (6432 Metric); Supplier Device Package: 2512; Size / Dimension: 0.252" L x 0.126" W (6.40mm x 3.20mm); Height - Seated (Max): 0.043" (1.10mm); Number of Terminations: 2; Failure Rate: -
footprint SMD-2512-RES
pins: 1, 2

## ERJ-M1WSF4M0U
designator R?, comment 0.004
RES SMD 0.004 OHM 1% 1W 2512; Part Number: ERJ-M1WSF4M0U; Manufacturer: Panasonic Electronic Components; Factory Stock: 0; Unit Price (USD): 0.22960; @ qty: 1500; Minimum Quantity: 1; Temperature Coefficient: ±350ppm/°C; Datasheets: http://industrial.panasonic.com/www-cgi/jvcr13pz.cgi?E+PZ+3+AOA0007+ERJM1WSF4M0U+7+WW; Image: //media.digikey.com/Renders/Panasonic%20Renders/ERJ-2512%20Pkg.jpg; Digi-Key Part Number: P4.0MCT-ND; Quantity Available: 15464; Packaging: Cut Tape (CT); Series: ERJ; Part Status: Active; Value: 0.004; Tolerance: ±1%; Power (Watts): 1W; Composition: Metal Element; Features: Current Sense; Operating Temperature: -55°C ~ 170°C; Package / Case: 2512 (6432 Metric); Supplier Device Package: 2512; Size / Dimension: 0.252" L x 0.126" W (6.40mm x 3.20mm); Height - Seated (Max): 0.043" (1.10mm); Number of Terminations: 2; Failure Rate: -
footprint SMD-2512-RES
pins: 1, 2

## ERJ-M1WSF5M0U
designator R?, comment 0.005
RES SMD 0.005 OHM 1% 1W 2512; Part Number: ERJ-M1WSF5M0U; Manufacturer: Panasonic Electronic Components; Factory Stock: 0; Unit Price (USD): 0.22960; @ qty: 1500; Minimum Quantity: 1; Temperature Coefficient: ±100ppm/°C; Datasheets: http://industrial.panasonic.com/www-cgi/jvcr13pz.cgi?E+PZ+3+AOA0007+ERJM1WSF5M0U+7+WW; Image: //media.digikey.com/Renders/Panasonic%20Renders/ERJ-2512%20Pkg.jpg; Digi-Key Part Number: P5.0MCT-ND; Quantity Available: 58359; Packaging: Cut Tape (CT); Series: ERJ; Part Status: Active; Value: 0.005; Tolerance: ±1%; Power (Watts): 1W; Composition: Metal Element; Features: Current Sense; Operating Temperature: -55°C ~ 170°C; Package / Case: 2512 (6432 Metric); Supplier Device Package: 2512; Size / Dimension: 0.252" L x 0.126" W (6.40mm x 3.20mm); Height - Seated (Max): 0.043" (1.10mm); Number of Terminations: 2; Failure Rate: -
footprint SMD-2512-RES
pins: 1, 2

## ERJ-M1WSF6M0U
designator R?, comment 0.006
RES SMD 0.006 OHM 1% 1W 2512; Part Number: ERJ-M1WSF6M0U; Manufacturer: Panasonic Electronic Components; Factory Stock: 0; Unit Price (USD): 0.22960; @ qty: 1500; Minimum Quantity: 1; Temperature Coefficient: ±100ppm/°C; Datasheets: http://industrial.panasonic.com/www-cgi/jvcr13pz.cgi?E+PZ+3+AOA0007+ERJM1WSF6M0U+7+WW; Image: //media.digikey.com/Renders/Panasonic%20Renders/ERJ-2512%20Pkg.jpg; Digi-Key Part Number: P6.0MCT-ND; Quantity Available: 4490; Packaging: Cut Tape (CT); Series: ERJ; Part Status: Active; Value: 0.006; Tolerance: ±1%; Power (Watts): 1W; Composition: Metal Element; Features: Current Sense; Operating Temperature: -55°C ~ 170°C; Package / Case: 2512 (6432 Metric); Supplier Device Package: 2512; Size / Dimension: 0.252" L x 0.126" W (6.40mm x 3.20mm); Height - Seated (Max): 0.043" (1.10mm); Number of Terminations: 2; Failure Rate: -
footprint SMD-2512-RES
pins: 1, 2

## ERJ-M1WSF8M0U
designator R?, comment 0.008
RES SMD 0.008 OHM 1% 1W 2512; Part Number: ERJ-M1WSF8M0U; Manufacturer: Panasonic Electronic Components; Factory Stock: 0; Unit Price (USD): 0.22960; @ qty: 1500; Minimum Quantity: 1; Temperature Coefficient: ±100ppm/°C; Datasheets: http://industrial.panasonic.com/cdbs/www-data/pdf/RDA0000/AOA0000CE7.pdf; Image: //media.digikey.com/Renders/Panasonic%20Renders/ERJ-2512%20Pkg.jpg; Digi-Key Part Number: P8.0MCT-ND; Quantity Available: 74580; Packaging: Cut Tape (CT); Series: ERJ; Part Status: Active; Value: 0.008; Tolerance: ±1%; Power (Watts): 1W; Composition: Metal Element; Features: Current Sense; Operating Temperature: -55°C ~ 170°C; Package / Case: 2512 (6432 Metric); Supplier Device Package: 2512; Size / Dimension: 0.252" L x 0.126" W (6.40mm x 3.20mm); Height - Seated (Max): 0.043" (1.10mm); Number of Terminations: 2; Failure Rate: -
footprint SMD-2512-RES
pins: 1, 2

## ERJ-M1WSF10MU
designator R?, comment 0.01
RES SMD 0.01 OHM 1% 1W 2512; Part Number: ERJ-M1WSF10MU; Manufacturer: Panasonic Electronic Components; Factory Stock: 0; Unit Price (USD): 0.22960; @ qty: 1500; Minimum Quantity: 1; Temperature Coefficient: ±100ppm/°C; Datasheets: http://industrial.panasonic.com/www-cgi/jvcr13pz.cgi?E+PZ+3+AOA0007+ERJM1WSF10MU+7+WW; Image: //media.digikey.com/Renders/Panasonic%20Renders/ERJ-2512%20Pkg.jpg; Digi-Key Part Number: P10MCT-ND; Quantity Available: 86670; Packaging: Cut Tape (CT); Series: ERJ; Part Status: Active; Value: 0.01; Tolerance: ±1%; Power (Watts): 1W; Composition: Metal Element; Features: Current Sense; Operating Temperature: -55°C ~ 170°C; Package / Case: 2512 (6432 Metric); Supplier Device Package: 2512; Size / Dimension: 0.252" L x 0.126" W (6.40mm x 3.20mm); Height - Seated (Max): 0.043" (1.10mm); Number of Terminations: 2; Failure Rate: -
footprint SMD-2512-RES
pins: 1, 2

## ERJ-M1WSF12MU
designator R?, comment 0.012
RES SMD 0.012 OHM 1% 1W 2512; Part Number: ERJ-M1WSF12MU; Manufacturer: Panasonic Electronic Components; Factory Stock: 0; Unit Price (USD): 0.22960; @ qty: 1500; Minimum Quantity: 1; Temperature Coefficient: ±100ppm/°C; Datasheets: http://industrial.panasonic.com/www-cgi/jvcr13pz.cgi?E+PZ+3+AOA0007+ERJM1WSF12MU+7+WW; Image: //media.digikey.com/Renders/Panasonic%20Renders/ERJ-2512%20Pkg.jpg; Digi-Key Part Number: P12MCT-ND; Quantity Available: 9023; Packaging: Cut Tape (CT); Series: ERJ; Part Status: Active; Value: 0.012; Tolerance: ±1%; Power (Watts): 1W; Composition: Metal Element; Features: Current Sense; Operating Temperature: -55°C ~ 170°C; Package / Case: 2512 (6432 Metric); Supplier Device Package: 2512; Size / Dimension: 0.252" L x 0.126" W (6.40mm x 3.20mm); Height - Seated (Max): 0.043" (1.10mm); Number of Terminations: 2; Failure Rate: -
footprint SMD-2512-RES
pins: 1, 2

## ERJ-M1WSF15MU
designator R?, comment 0.015
RES SMD 0.015 OHM 1% 1W 2512; Part Number: ERJ-M1WSF15MU; Manufacturer: Panasonic Electronic Components; Factory Stock: 0; Unit Price (USD): 0.22960; @ qty: 1500; Minimum Quantity: 1; Temperature Coefficient: ±100ppm/°C; Datasheets: http://industrial.panasonic.com/www-cgi/jvcr13pz.cgi?E+PZ+3+AOA0007+ERJM1WSF15MU+7+WW; Image: //media.digikey.com/Renders/Panasonic%20Renders/ERJ-2512%20Pkg.jpg; Digi-Key Part Number: P15MCT-ND; Quantity Available: 13815; Packaging: Cut Tape (CT); Series: ERJ; Part Status: Active; Value: 0.015; Tolerance: ±1%; Power (Watts): 1W; Composition: Metal Element; Features: Current Sense; Operating Temperature: -55°C ~ 170°C; Package / Case: 2512 (6432 Metric); Supplier Device Package: 2512; Size / Dimension: 0.252" L x 0.126" W (6.40mm x 3.20mm); Height - Seated (Max): 0.043" (1.10mm); Number of Terminations: 2; Failure Rate: -
footprint SMD-2512-RES
pins: 1, 2

## ERJ-M1WSF16MU
designator R?, comment 0.016
RES SMD 0.016 OHM 1% 1W 2512; Part Number: ERJ-M1WSF16MU; Manufacturer: Panasonic Electronic Components; Factory Stock: 0; Unit Price (USD): 0.22960; @ qty: 1500; Minimum Quantity: 1; Temperature Coefficient: ±100ppm/°C; Datasheets: http://industrial.panasonic.com/cdbs/www-data/pdf/RDA0000/AOA0000CE7.pdf; Image: //media.digikey.com/Renders/Panasonic%20Renders/ERJ-2512%20Pkg.jpg; Digi-Key Part Number: P16MCT-ND; Quantity Available: 9354; Packaging: Cut Tape (CT); Series: ERJ; Part Status: Active; Value: 0.016; Tolerance: ±1%; Power (Watts): 1W; Composition: Metal Element; Features: Current Sense; Operating Temperature: -55°C ~ 170°C; Package / Case: 2512 (6432 Metric); Supplier Device Package: 2512; Size / Dimension: 0.252" L x 0.126" W (6.40mm x 3.20mm); Height - Seated (Max): 0.043" (1.10mm); Number of Terminations: 2; Failure Rate: -
footprint SMD-2512-RES
pins: 1, 2

## ERJ-M1WSF20MU
designator R?, comment 0.02
RES SMD 0.02 OHM 1% 1W 2512; Part Number: ERJ-M1WSF20MU; Manufacturer: Panasonic Electronic Components; Factory Stock: 0; Unit Price (USD): 0.22960; @ qty: 1500; Minimum Quantity: 1; Temperature Coefficient: ±100ppm/°C; Datasheets: http://industrial.panasonic.com/www-cgi/jvcr13pz.cgi?E+PZ+3+AOA0007+ERJM1WSF20MU+7+WW; Image: //media.digikey.com/Renders/Panasonic%20Renders/ERJ-2512%20Pkg.jpg; Digi-Key Part Number: P20MCT-ND; Quantity Available: 40069; Packaging: Cut Tape (CT); Series: ERJ; Part Status: Active; Value: 0.02; Tolerance: ±1%; Power (Watts): 1W; Composition: Metal Element; Features: Current Sense; Operating Temperature: -55°C ~ 170°C; Package / Case: 2512 (6432 Metric); Supplier Device Package: 2512; Size / Dimension: 0.252" L x 0.126" W (6.40mm x 3.20mm); Height - Seated (Max): 0.043" (1.10mm); Number of Terminations: 2; Failure Rate: -
footprint SMD-2512-RES
pins: 1, 2

## ERJ-M1WSJ3M0U
designator R?, comment 0.003
RES SMD 0.003 OHM 5% 1W 2512; Part Number: ERJ-M1WSJ3M0U; Manufacturer: Panasonic Electronic Components; Factory Stock: 0; Unit Price (USD): 0.34400; @ qty: 1500; Minimum Quantity: 1; Temperature Coefficient: ±350ppm/°C; Datasheets: http://industrial.panasonic.com/www-cgi/jvcr13pz.cgi?E+PZ+3+AOA0007+ERJM1WSJ3M0U+7+WW; Image: //media.digikey.com/Renders/Panasonic%20Renders/ERJ-2512%20Pkg.jpg; Digi-Key Part Number: P3.0TCT-ND; Quantity Available: 2393; Packaging: Cut Tape (CT); Series: ERJ; Part Status: Active; Value: 0.003; Tolerance: ±5%; Power (Watts): 1W; Composition: Metal Element; Features: Current Sense; Operating Temperature: -55°C ~ 170°C; Package / Case: 2512 (6432 Metric); Supplier Device Package: 2512; Size / Dimension: 0.252" L x 0.126" W (6.40mm x 3.20mm); Height - Seated (Max): 0.043" (1.10mm); Number of Terminations: 2; Failure Rate: -
footprint SMD-2512-RES
pins: 1, 2

## ERJ-M1WSJ4M0U
designator R?, comment 0.004
RES SMD 0.004 OHM 5% 1W 2512; Part Number: ERJ-M1WSJ4M0U; Manufacturer: Panasonic Electronic Components; Factory Stock: 0; Unit Price (USD): 0.34400; @ qty: 1500; Minimum Quantity: 1; Temperature Coefficient: ±350ppm/°C; Datasheets: http://industrial.panasonic.com/www-cgi/jvcr13pz.cgi?E+PZ+3+AOA0007+ERJM1WSJ4M0U+7+WW; Image: //media.digikey.com/Renders/Panasonic%20Renders/ERJ-2512%20Pkg.jpg; Digi-Key Part Number: P4.0TCT-ND; Quantity Available: 8451; Packaging: Cut Tape (CT); Series: ERJ; Part Status: Active; Value: 0.004; Tolerance: ±5%; Power (Watts): 1W; Composition: Metal Element; Features: Current Sense; Operating Temperature: -55°C ~ 170°C; Package / Case: 2512 (6432 Metric); Supplier Device Package: 2512; Size / Dimension: 0.252" L x 0.126" W (6.40mm x 3.20mm); Height - Seated (Max): 0.043" (1.10mm); Number of Terminations: 2; Failure Rate: -
footprint SMD-2512-RES
pins: 1, 2

## ERJ-M1WSJ5M0U
designator R?, comment 0.005
RES SMD 0.005 OHM 5% 1W 2512; Part Number: ERJ-M1WSJ5M0U; Manufacturer: Panasonic Electronic Components; Factory Stock: 0; Unit Price (USD): 0.34400; @ qty: 1500; Minimum Quantity: 1; Temperature Coefficient: ±100ppm/°C; Datasheets: http://industrial.panasonic.com/www-cgi/jvcr13pz.cgi?E+PZ+3+AOA0007+ERJM1WSJ5M0U+7+WW; Image: //media.digikey.com/Renders/Panasonic%20Renders/ERJ-2512%20Pkg.jpg; Digi-Key Part Number: P5.0TCT-ND; Quantity Available: 9139; Packaging: Cut Tape (CT); Series: ERJ; Part Status: Active; Value: 0.005; Tolerance: ±5%; Power (Watts): 1W; Composition: Metal Element; Features: Current Sense; Operating Temperature: -55°C ~ 170°C; Package / Case: 2512 (6432 Metric); Supplier Device Package: 2512; Size / Dimension: 0.252" L x 0.126" W (6.40mm x 3.20mm); Height - Seated (Max): 0.043" (1.10mm); Number of Terminations: 2; Failure Rate: -
footprint SMD-2512-RES
pins: 1, 2

## ERJ-M1WSJ8M0U
designator R?, comment 0.008
RES SMD 0.008 OHM 5% 1W 2512; Part Number: ERJ-M1WSJ8M0U; Manufacturer: Panasonic Electronic Components; Factory Stock: 0; Unit Price (USD): 0.34400; @ qty: 1500; Minimum Quantity: 1; Temperature Coefficient: ±100ppm/°C; Datasheets: http://industrial.panasonic.com/cdbs/www-data/pdf/RDA0000/AOA0000CE7.pdf; Image: //media.digikey.com/Renders/Panasonic%20Renders/ERJ-2512%20Pkg.jpg; Digi-Key Part Number: P8.0TCT-ND; Quantity Available: 5081; Packaging: Cut Tape (CT); Series: ERJ; Part Status: Active; Value: 0.008; Tolerance: ±5%; Power (Watts): 1W; Composition: Metal Element; Features: Current Sense; Operating Temperature: -55°C ~ 170°C; Package / Case: 2512 (6432 Metric); Supplier Device Package: 2512; Size / Dimension: 0.252" L x 0.126" W (6.40mm x 3.20mm); Height - Seated (Max): 0.043" (1.10mm); Number of Terminations: 2; Failure Rate: -
footprint SMD-2512-RES
pins: 1, 2

## ERJ-M1WSJ10MU
designator R?, comment 0.01
RES SMD 0.01 OHM 5% 1W 2512; Part Number: ERJ-M1WSJ10MU; Manufacturer: Panasonic Electronic Components; Factory Stock: 0; Unit Price (USD): 0.35540; @ qty: 1500; Minimum Quantity: 1; Temperature Coefficient: ±100ppm/°C; Datasheets: http://industrial.panasonic.com/www-cgi/jvcr13pz.cgi?E+PZ+3+AOA0007+ERJM1WSJ10MU+7+WW; Image: //media.digikey.com/Renders/Panasonic%20Renders/ERJ-2512%20Pkg.jpg; Digi-Key Part Number: P10TCT-ND; Quantity Available: 4707; Packaging: Cut Tape (CT); Series: ERJ; Part Status: Active; Value: 0.01; Tolerance: ±5%; Power (Watts): 1W; Composition: Metal Element; Features: Current Sense; Operating Temperature: -55°C ~ 170°C; Package / Case: 2512 (6432 Metric); Supplier Device Package: 2512; Size / Dimension: 0.252" L x 0.126" W (6.40mm x 3.20mm); Height - Seated (Max): 0.043" (1.10mm); Number of Terminations: 2; Failure Rate: -
footprint SMD-2512-RES
pins: 1, 2

## ERJ-M1WSJ12MU
designator R?, comment 0.012
RES SMD 0.012 OHM 5% 1W 2512; Part Number: ERJ-M1WSJ12MU; Manufacturer: Panasonic Electronic Components; Factory Stock: 0; Unit Price (USD): 0.35540; @ qty: 1500; Minimum Quantity: 1; Temperature Coefficient: ±100ppm/°C; Datasheets: http://industrial.panasonic.com/cdbs/www-data/pdf/RDA0000/AOA0000CE7.pdf; Image: //media.digikey.com/Renders/Panasonic%20Renders/ERJ-2512%20Pkg.jpg; Digi-Key Part Number: P12TCT-ND; Quantity Available: 12644; Packaging: Cut Tape (CT); Series: ERJ; Part Status: Active; Value: 0.012; Tolerance: ±5%; Power (Watts): 1W; Composition: Metal Element; Features: Current Sense; Operating Temperature: -55°C ~ 170°C; Package / Case: 2512 (6432 Metric); Supplier Device Package: 2512; Size / Dimension: 0.252" L x 0.126" W (6.40mm x 3.20mm); Height - Seated (Max): 0.043" (1.10mm); Number of Terminations: 2; Failure Rate: -
footprint SMD-2512-RES
pins: 1, 2

## ERJ-M1WSJ15MU
designator R?, comment 0.015
RES SMD 0.015 OHM 5% 1W 2512; Part Number: ERJ-M1WSJ15MU; Manufacturer: Panasonic Electronic Components; Factory Stock: 0; Unit Price (USD): 0.37050; @ qty: 1500; Minimum Quantity: 1; Temperature Coefficient: ±100ppm/°C; Datasheets: http://industrial.panasonic.com/www-cgi/jvcr13pz.cgi?E+PZ+3+AOA0007+ERJM1WSJ15MU+7+WW; Image: //media.digikey.com/Renders/Panasonic%20Renders/ERJ-2512%20Pkg.jpg; Digi-Key Part Number: P15TCT-ND; Quantity Available: 8264; Packaging: Cut Tape (CT); Series: ERJ; Part Status: Active; Value: 0.015; Tolerance: ±5%; Power (Watts): 1W; Composition: Metal Element; Features: Current Sense; Operating Temperature: -55°C ~ 170°C; Package / Case: 2512 (6432 Metric); Supplier Device Package: 2512; Size / Dimension: 0.252" L x 0.126" W (6.40mm x 3.20mm); Height - Seated (Max): 0.043" (1.10mm); Number of Terminations: 2; Failure Rate: -
footprint SMD-2512-RES
pins: 1, 2